# EAGLE library part ADL_LIB_001_IRF7210 (library cTechnologies_transistors)
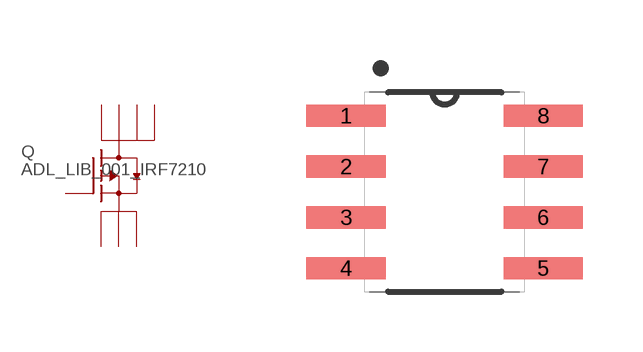
[diagram p0: symbol with the pads of ADL_LIB_001_SOIC127P600X175-8N; footprint ADL_LIB_001_SOIC127P600X175-8N]

Designator prefix Q

## ADL_LIB_001_IRF7210  [ADL_LIB_001_SOIC127P600X175-8N]
1  S  pas
2  S_2  pas
3  S_3  pas
4  G  pas
5  D  pas
6  D_2  pas
7  D_3  pas
8  D_4  pas

## Footprint ADL_LIB_001_SOIC127P600X175-8N (pad centres in mm)
smd 1.981 x 0.559: 1 -2.464,1.905; 2 -2.464,0.635; 3 -2.464,-0.635; 4 -2.464,-1.905; 5 2.464,-1.905; 6 2.464,-0.635; 7 2.464,0.635; 8 2.464,1.905